# Altium schematic symbol library Pads.SchLib: 1 symbol
Pins are listed as number, name and electrical type; pins without a type are passive.

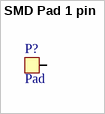
[diagram p0: symbol SMD Pad 1 pin]

## SMD Pad 1 pin
designator P?  Name: Pad  (hidden comment: *)
Single SMD Pad
footprint PAD_1.8X0.95_SQUARE
footprint PAD_2X1.5_SQUARE
footprint PAD_4X1.5_ROUND
pins: 1